# Altium footprint library Capacitors_Semi.PcbLib: 29 footprints (part 2 of 2)
Each footprint in its own frame and in the unit in brackets; x right, y up, seen from the top. Pads: shape width x height; smd on the part's side, far side on the other; paste and mask are expansions set on the pad; w line width, h text height; cw(c..) or ccw(c..) is an arc to the next point about the centre after c.
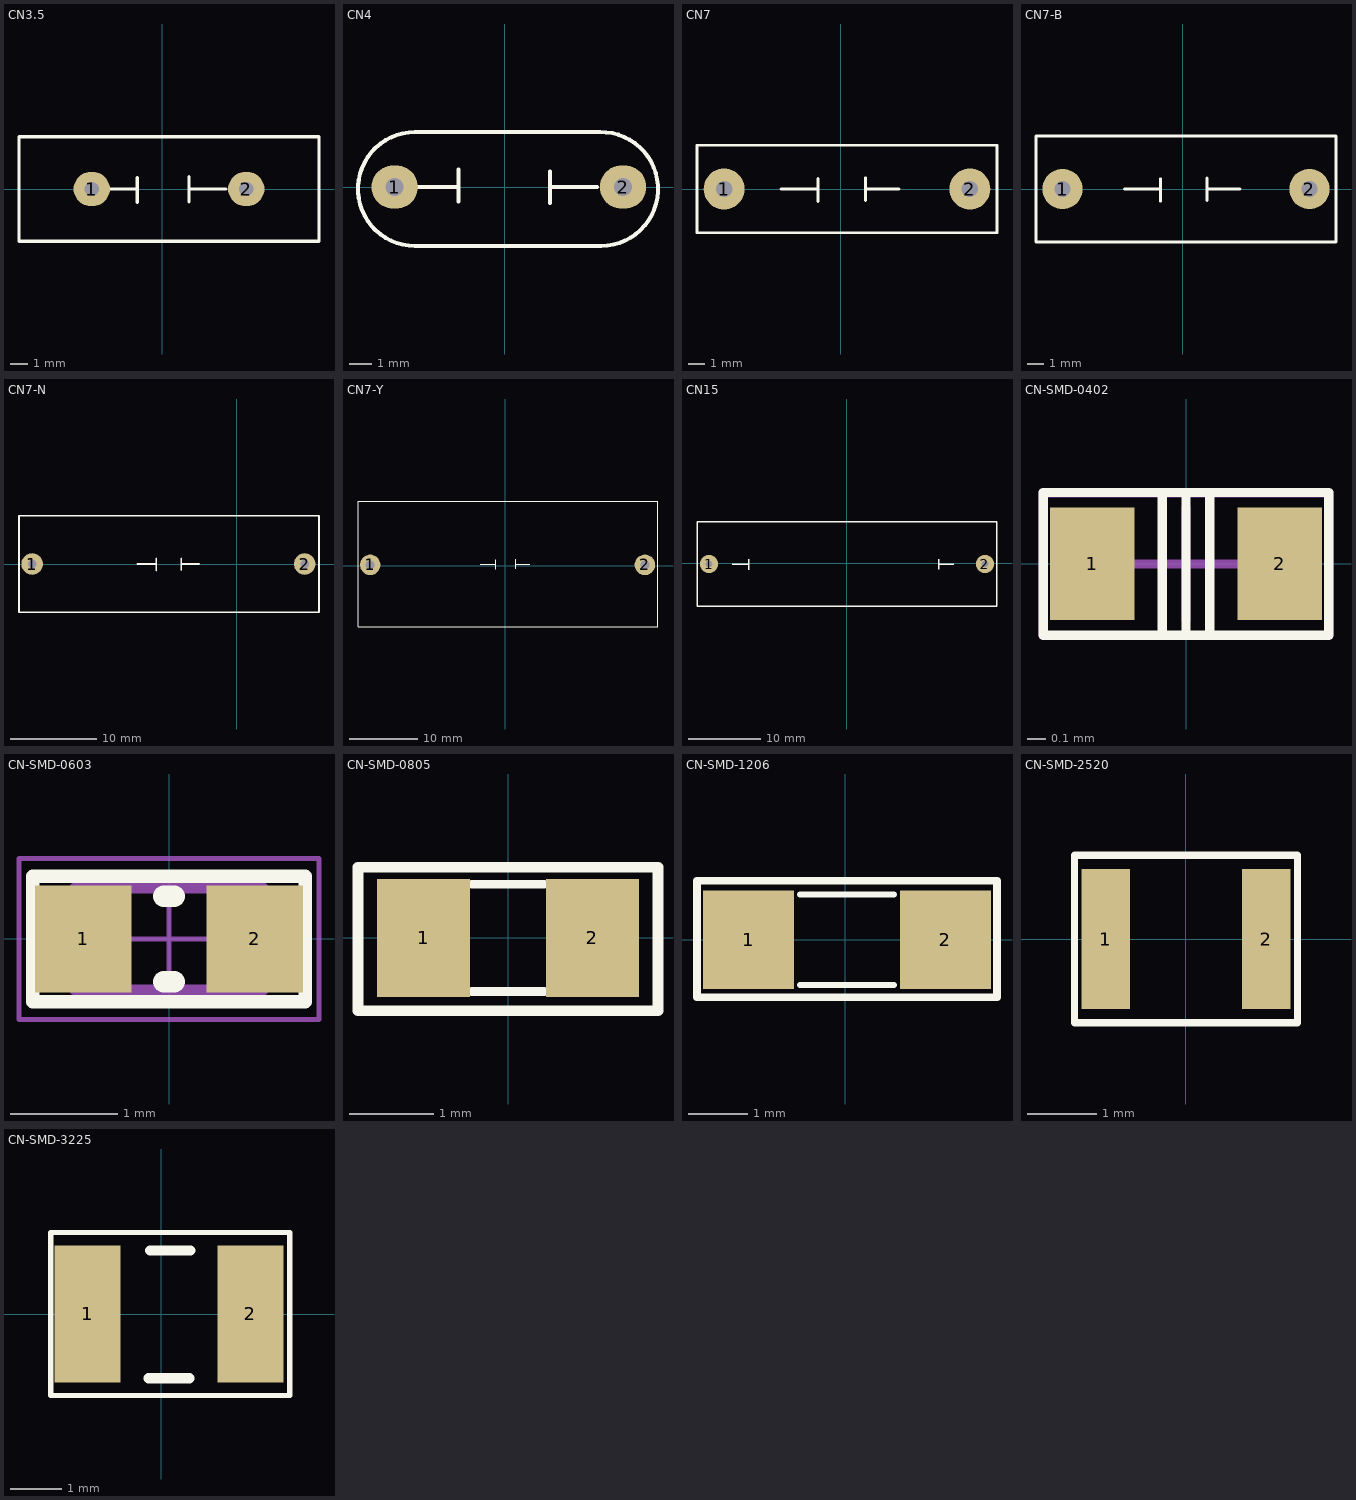
[diagram p1: the footprints below, top view; thin cyan lines are the x and y axes]

## CN3.5 [mil] "Cap np W 0.3"
height 200
pads (2):
  oval 80x75 hole 31: 1(-155,0) 2(185,0)
Top Overlay:
  lines w7: -143,0 -59,0 ; -55,-30 -55,25 ; 59,-28 59,27 ; 59,0 140,0
  lines w7.09: -315,-115 -315,115 345,115 345,-115 -315,-115
3D body "User Library-CD19.step": height 527.56, standoff -118.11, extent -309.8,-110.24 339.8,110.24

## CN4 [mil]
height 200
pads (2):
  oval 80x75 hole 31: 1(-190,0) 2(205,0)
Top Overlay:
  lines w7: -168,0 -84,0 ; -80,-25 -80,30 ; 79,-28 79,27 ; 79,0 160,0 ; -155,-101.85 cw(c-155,-3.43) -155,95 165,95 cw(c166.97,-3.41) 166.97,-101.83 -155,-101.83
3D body "User Library-Capacitor MKT_B32591C3104 (Pitch 10mm).step": height 570.87, standoff -157.48, extent -250.9,-100 260.9,96.85

## CN7 [mm] "Cap np W 0.3"
height 5.08
pads (2):
  round 2.5 hole 1: 1(-7.112,0) 2(7.874,0)
Top Overlay:
  lines w0.178: -3.632,0 -1.499,0 ; -1.397,-0.762 -1.397,0.635 ; 1.499,-0.711 1.499,0.686 ; 1.499,0 3.556,0
  lines w0.18: -8.763,-2.667 9.525,-2.667 9.525,2.667 -8.763,2.667 -8.763,-2.667
3D body "User Library-CPLP15mm.step": height 11, standoff -2.6, extent -8.619,-2.5 9.381,2.5

## CN7-B [mm] "Cap np W 0.3"
height 5.08
pads (2):
  round 2.5 hole 1: 1(-7.493,0) 2(7.874,0)
Top Overlay:
  lines w0.178: -3.632,0 -1.499,0 ; -1.397,-0.762 -1.397,0.635 ; 1.499,-0.711 1.499,0.686 ; 1.499,0 3.556,0
  lines w0.18: -9.144,-3.302 9.525,-3.302 9.525,3.302 -9.144,3.302 -9.144,-3.302
3D body "User Library-Capacitor electrolytic axial 0_6in pitch.step": height 7.31, standoff -3, extent -7.793,-3.15 8.047,3.15

## CN7-N [mm] "Cap np W 0.3"
height 5.08
pads (2):
  round 2.5 hole 1: 1(-23.622,0) 2(7.874,0)
Top Overlay:
  lines w0.178: -11.506,0 -9.373,0 ; -9.271,-0.762 -9.271,0.635 ; -6.375,-0.711 -6.375,0.686 ; -6.375,0 -4.318,0
  lines w0.18: -25.146,-5.588 -25.146,5.588 9.525,5.588 9.525,-5.588 -25.146,-5.588
3D body "User Library-CLR79-T3 model.step": height 10.95, standoff -2.41, extent -23.91,-5.334 8.162,5.366

## CN7-Y [mm] "Cap np W 0.3"
height 5.08
pads (2):
  round 3 hole 1.3: 1(-19.685,0.127) 2(20.32,0.127)
Top Overlay:
  lines w0.178: -3.632,0.254 -1.499,0.254 ; -1.397,-0.508 -1.397,0.889 ; 1.499,-0.457 1.499,0.94 ; 1.499,0.254 3.556,0.254
  lines w0.18: 22.225,0 22.225,9.398 -21.463,9.398 -21.463,-8.89 22.225,-8.89 22.225,0.127
3D body "User Library-ICEL CAP.step": height 18, standoff -6, extent -20.119,-8.763 20.881,9.237

## CN15 [mm] "Cap np W 0.3"
height 5.08
pads (2):
  round 2.5 hole 1: 1(-18.923,-0.127) 2(19.05,-0.127)
Top Overlay:
  lines w0.178: -15.697,-0.127 -13.564,-0.127 ; -13.462,-0.889 -13.462,0.508 ; 12.675,-0.838 12.675,0.559 ; 12.675,-0.127 14.732,-0.127
  lines w0.18: -20.574,-5.969 20.701,-5.969 20.701,5.715 -20.574,5.715 -20.574,-5.969
3D body "User Library-Capacitor Axial 15.step": height 11.5, standoff -2.5, extent -19.369,-5.627 19.431,5.373

## CN-SMD-0402 [mm]
pads (2):
  rect 0.45x0.6 smd: 1(-0.5,0) 2(0.5,0)
Top Overlay:
  lines w0.05: -0.127,0.381 -0.127,-0.381 0,-0.381 ; 0,-0.381 0,0.381 ; 0,-0.381 0.127,-0.381 0.127,0.381 0,0.381 ; 0,0.381 0.762,0.381 0.762,-0.381 -0.762,-0.381 -0.762,0.381 0,0.381
Mechanical 15:
  lines w0.05: -0.3,0 0.3,0 ; 0,-0.3 0,0.3 ; -0.762,-0.381 0.762,-0.381 0.762,0.381 -0.762,0.381 -0.762,-0.381
3D body "User Library-0402 SMD Capacitor.step": height 0.2, standoff 0, extent -0.5,-0.3 0.5,0.3

## CN-SMD-0603 [mm]
pads (2):
  rect 0.9x1 smd: 1(-0.8,0) 2(0.8,0)
Top Overlay:
  lines w0.127: -1.27,-0.584 1.27,-0.584 1.27,0.584 -1.27,0.584 -1.27,-0.584
  lines w0.2: -0.05,-0.4 0.05,-0.4 ; -0.05,0.4 0.05,0.4
Mechanical 13:
  lines w0.1: -0.875,-0.475 0.875,-0.475 0.875,0.475 -0.875,0.475 -0.875,-0.475
Mechanical 15:
  lines w0.05: -0.475,0 0.475,0 ; 0,-0.475 0,0.475 ; -1.397,-0.75 1.397,-0.75 1.397,0.75 -1.397,0.75 -1.397,-0.75
3D body "User Library-0603 SMD Capacitor.step": height 0.3, standoff 0, extent -0.8,-0.4 0.8,0.4

## CN-SMD-0805 [mil]
pads (2):
  rect 43.31x55 smd: 1(-39.36,0.01) 2(39.37,0.01)
Top Overlay:
  lines w4: -17,-25 17,-25 ; -17,25 17,25
  lines w5: -70,-34 70,-34 70,33 -70,33 -70,-34
3D body "0805 SMD Capacitor.step": height 31.39, standoff 0.6, extent -39.36,-24.6 39.37,24.61

## CN-SMD-1206 [mil]
pads (2):
  rect 60x65 smd: 1(-64,0) 2(66,0)
Top Overlay:
  lines w4: -30,-30 32,-30 ; -30,30 32,30
  lines w5: -98,-38 100,-38 100,39 -98,39 -98,-38
3D body "1206 SMD Capacitor.step": height 40.05, standoff 0.6, extent -62.98,-31.49 63,31.51

## CN-SMD-2520 [mm] "TOKO INDUCTOR DFE252012 SERIES"
pads (2):
  rect 0.7x2 smd mask+0.051: 1(-1.15,0) 2(1.15,0)
Top Overlay:
  lines w0.102: -1.6,-1.2 -1.6,1.2 -1.5,1.2 1.6,1.2 1.6,-1.2 -1.5,-1.2 -1.6,-1.2
3D body: height 1.2, standoff 0, extent -1.15,-0.9 1.15,0.9
3D body: height 1.21, standoff 0, extent -1.25,-1 -0.85,1
3D body: height 1.21, standoff 0, extent 0.85,-1 1.25,1

## CN-SMD-3225 [mm] "Chip Capacitor, Body 3.2x2.5mm, IPC Medium Density"
height 1.35
pads (2):
  rect 1.3x2.7 smd: 1(-1.445,0) 2(1.755,0)
Top Overlay:
  lines w0.1: -2.17,-1.6 -2.17,1.6 2.53,1.6 2.53,-1.6 -2.17,-1.6
  lines w0.2: -0.245,-1.265 0.555,-1.265 ; -0.22,1.25 0.58,1.25
3D body "SMD Capacitor 3225.step": height 1, standoff 0, extent -1.445,-1.25 1.755,1.25